# Altium footprint library PCB.PcbLib: 35 footprints (part 1 of 3)
Each footprint in its own frame and in the unit in brackets; x right, y up, seen from the top. Pads: shape width x height; smd on the part's side, far side on the other; paste and mask are expansions set on the pad; w line width, h text height; cw(c..) or ccw(c..) is an arc to the next point about the centre after c.
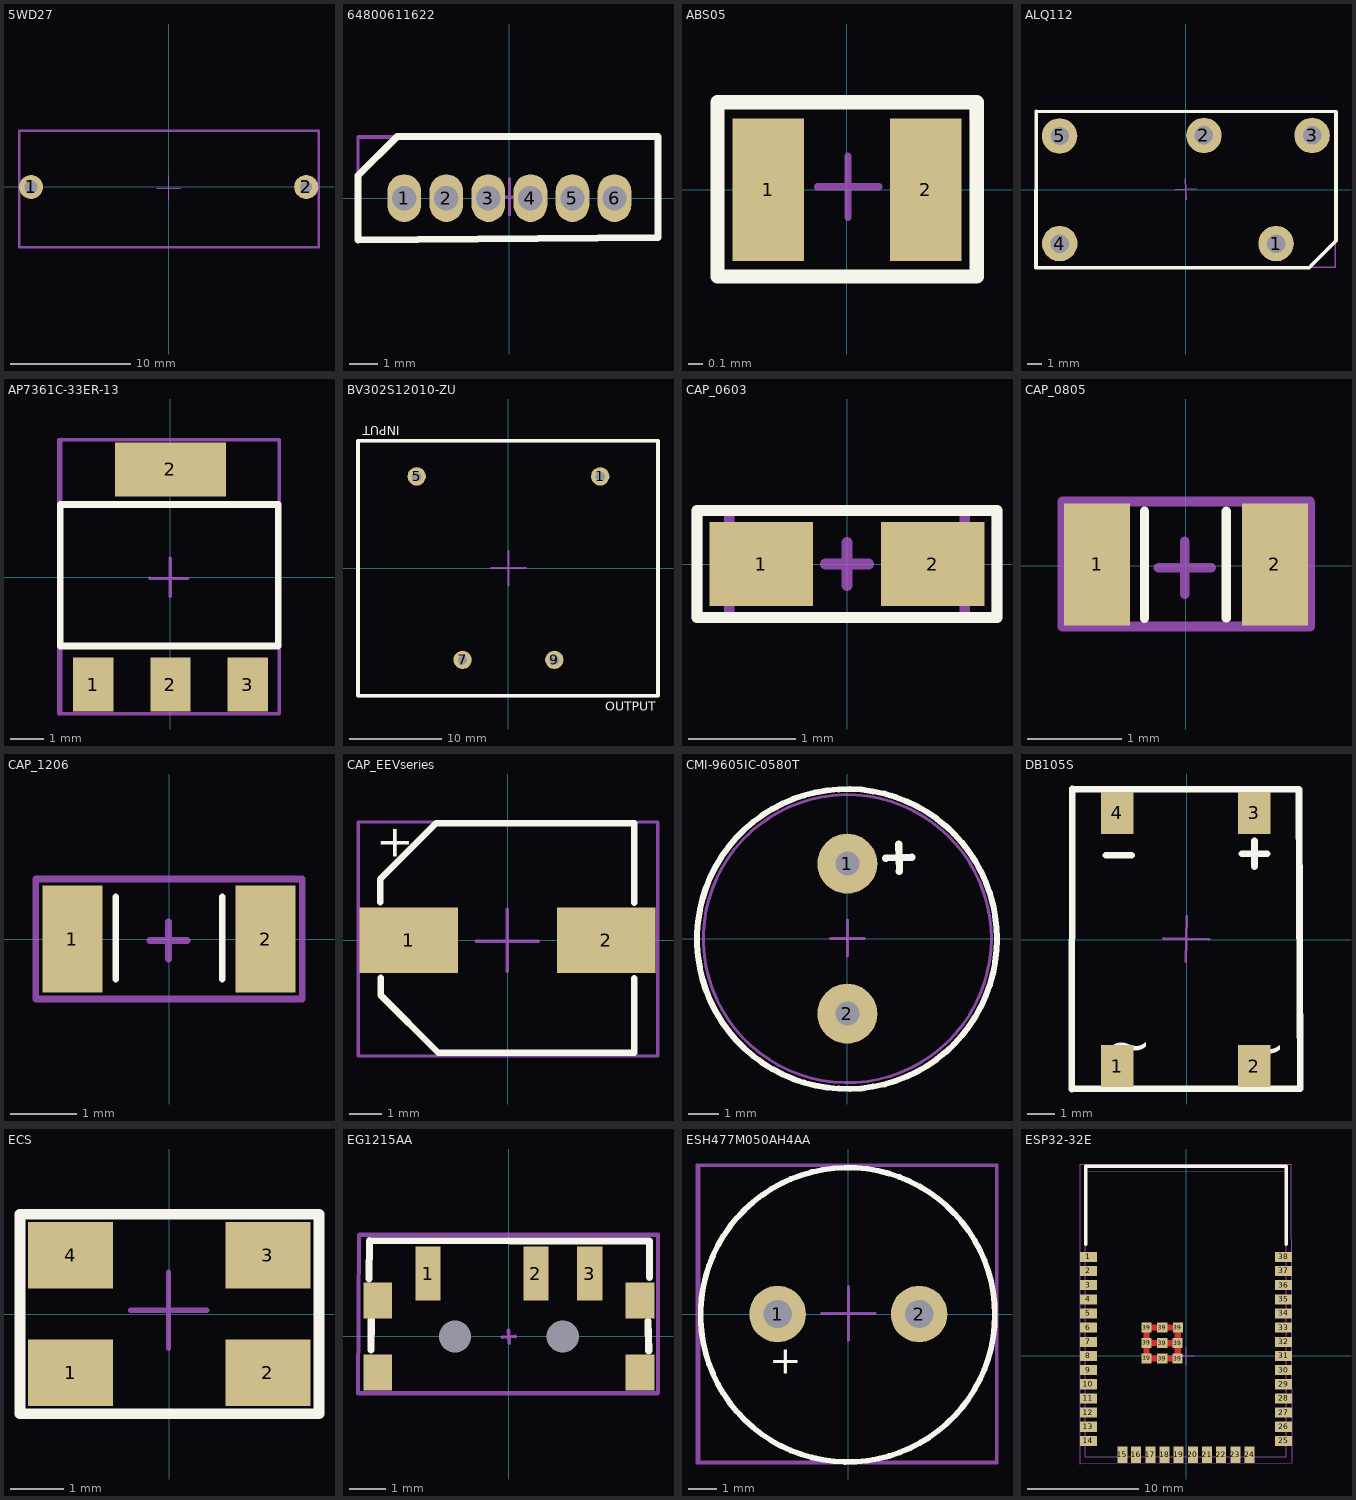
[diagram p0: the footprints below, top view; thin cyan lines are the x and y axes]

## 5WD27 [mm]
pads (2):
  round 2 hole 1.1 mask+0.05: 1(-11.425,0)
  round 2 hole 1 mask+0.05: 2(11.425,0)
Top Component Center:
  lines w0.1: -1.003,-0.086 1.009,-0.086 ; 0.003,-1.092 0.003,0.92
  lines w0.2: -12.414,-5.029 -12.414,4.671 12.487,4.671 12.487,-5.029 -12.414,-5.029
Top Designator:
  lines w0.2: -12.422,-5.007 -12.422,4.693 12.479,4.693 12.479,-5.007 -12.422,-5.007
  text ".Designator" at -1.898,-0.709 h1.52
3D body: height 5.4, standoff 4.6, extent 11.082,-0.4 11.882,0.4
3D body: height 5.4, standoff 4.6, extent 2.454,-0.399 11.454,0.401
3D body: height 5, standoff -4, extent 11.084,-0.398 11.884,0.402
3D body: height 5.4, standoff 4.6, extent -11.788,-0.418 -10.988,0.382
3D body: height 5.4, standoff 4.6, extent -11.36,-0.419 -2.36,0.381
3D body: height 5, standoff -4, extent -11.79,-0.42 -10.99,0.38
3D body: height 9.65, standoff 0, extent -7.425,-4.985 7.46,4.66

## 64800611622 [mm]
pads (6):
  oval 1.2x1.7 hole 0.87 mask+0.05: 1(-3.75,0) 2(-2.25,0) 3(-0.75,0) 4(0.75,0) 5(2.25,0) 6(3.75,0)
Top Overlay:
  lines w0.25: -5.4,-1.5 -5.4,0.8 -4,2.2 5.3,2.2 5.3,-1.4 -5.4,-1.5
Top Component Center:
  lines w0.1: -0.65,0.05 0.65,0.05 ; 0,-0.6 0,0.7 ; -5.4,-1.5 -5.4,2.2 5.3,2.2 5.3,-1.4 -5.4,-1.5
Top Designator:
  lines w0.1: -5.4,-1.55 -5.4,2.15 5.3,2.15 5.3,-1.45 -5.4,-1.55
  text ".Designator" at -2.12,-0.287 h1
3D body "64800611622 (rev1).stp": height 4.55, standoff -2.65, extent -5.25,-1.4 5.25,2.1

## ABS05 [mm]
pads (2):
  rect 0.5x1 smd mask+0.05: 1(-0.55,0) 2(0.55,0)
Top Overlay:
  lines w0.1: -0.907,-0.607 0.908,-0.607 0.908,0.612 -0.907,0.612 -0.907,-0.607
Top Component Center:
  lines w0.05: -0.206,0.021 0.223,0.021 ; 0.008,-0.194 0.008,0.235 ; -0.892,-0.612 0.908,-0.612 0.892,0.615 -0.892,0.61 -0.892,-0.612
Top Designator:
  lines w0.05: -0.9,-0.604 0.9,-0.604 0.884,0.623 -0.9,0.617 -0.9,-0.604
  text ".Designator" at -0.58,-0.205 h0.5
3D body "User Library-ABS05.step": height 0.5, standoff 0, extent -0.8,-0.5 0.8,0.5

## ALQ112 [mm]
pads (5):
  round 2.5 hole 1.3 mask+0.05: 1(6.355,-3.81) 2(1.275,3.81) 3(8.895,3.81) 4(-8.885,-3.81) 5(-8.895,3.77)
Top Overlay:
  lines w0.25: -10.554,-5.5 -10.522,5.521 10.577,5.488 10.577,-3.618 8.874,-5.321 8.695,-5.5 -10.554,-5.5
Top Component Center:
  lines w0.1: -0.734,-0.002 0.744,0.068 ; -0.03,0.772 0.04,-0.706 ; -10.54,-5.476 -10.54,5.519 10.534,5.573 10.507,-5.476 -10.54,-5.476
Top Designator:
  lines w0.1: -10.54,-5.476 10.507,-5.476 10.534,5.573 -10.54,5.519 -10.54,-5.476
  text ".Designator" at -5.421,-0.548 h1.52
3D body: height 15.6, standoff 0.4, extent -10.495,-5.48 10.505,5.52
3D body: height 4.2, standoff -3.75, extent 0.68,3.575 1.87,4.045
3D body: height 15.6, standoff 0.4, extent 8.207,-4.687 9.677,-3.297
3D body: height 0.45, standoff -3.75, extent -9.285,3.41 -8.485,4.21
3D body: height 0.45, standoff -3.75, extent -9.285,-4.21 -8.485,-3.41
3D body: height 4.2, standoff -3.75, extent 8.3,3.575 9.49,4.045
3D body: height 4.2, standoff -3.75, extent 5.76,-4.045 6.95,-3.575

## AP7361C-33ER-13 [mm]
pads (4):
  rect 1.2x1.6 smd mask+0.05: 1(-2.3,-3.2) 2(0,-3.2) 3(2.3,-3.2)
  rect 3.3x1.6 smd mask+0.05: 2(0,3.2)
Top Overlay:
  lines w0.2: -3.28,-2.05 -3.28,2.16 3.21,2.16 3.21,-2.05 -3.28,-2.05
Top Component Center:
  lines w0.1: -0.616,-0.031 0.524,-0.041 ; -0.01,-0.58 0,0.56 ; -3.33,-4.07 -3.33,4.08 3.23,4.08 3.23,-4.07 -3.33,-4.07
Top Designator:
  lines w0.1: -3.255,-4.073 3.245,-4.073 3.245,4.085 -3.255,4.095 -3.255,-4.073
  text ".Designator" at -2.12,-0.39 h0.9
3D body "CircuitWorks-SOT-223.step": height 1.65, standoff -0.03, extent -3.25,-3.48 3.25,3.48

## BV302S12010-ZU [mm]
pads (4):
  round 2 hole 1 mask+0.05: 1(10,10) 5(-10,10) 7(-5,-10) 9(5,-10)
Top Overlay:
  lines w0.4: -16.4,-13.9 16.3,-13.9 16.3,13.9 -16.4,13.9 -16.4,-13.9
  text "OUTPUT" at 10.554,-15.546 h1
  text "INPUT" at -11.854,15.446 h1
Top Component Center:
  lines w0.2: -1.9,0 1.9,0 ; 0,-1.9 0,1.9 ; -16.3,-13.9 16.2,-13.9 16.2,13.9 -16.3,13.9 -16.3,-13.9
Top Designator:
  lines w0.2: -16.3,-14 16.2,-14 16.2,13.8 -16.3,13.8 -16.3,-14
  text ".Designator" at -2.4,-0.834 h2
3D body "User Library-Hahn BV EI 302 2902.step": height 20.81, standoff -5.49, extent -16.25,-13.75 16.25,13.75

## CAP_0603 [mil]
pads (2):
  rect 38x31 smd mask+1.97: 1(-31.5,0) 2(31.5,0)
Top Overlay:
  lines w3.94: -55.12,-19.68 -55.12,19.68 55.12,19.68 55.12,-19.68 -55.12,-19.68
Top 3D BODY:
  lines w3.94: -43.31,-19.68 -43.31,19.68 43.31,19.68 43.31,-19.68 -43.31,-19.68
Top Component Center:
  lines w3.94: -7.87,0 7.87,0 ; 0,-7.87 0,7.87 ; -55.12,-19.68 -55.12,19.68 55.12,19.68 55.12,-19.68 -55.12,-19.68
Top Designator:
  lines w3.94: -55.12,-19.68 -55.12,19.68 55.12,19.68 55.12,-19.68 -55.12,-19.68
  text ".Designator" at -20.08,-6.96 h15.75
3D body "CAPC0603.STEP": height 31.5, standoff 0, extent -41.35,-20.82 41.35,19.68

## CAP_0805 [mm]
pads (2):
  rect 0.7x1.3 smd mask+0.05: 1(-0.939,0.013) 2(0.948,0.013)
Top Overlay:
  lines w0.1: -0.436,-0.56 -0.436,0.576 ; 0.431,-0.556 0.431,0.58
Top Component Center:
  lines w0.1: -0.289,-0.022 0.272,-0.022 ; -0.008,-0.303 -0.008,0.258 ; -1.31,-0.651 -1.31,0.681 1.324,0.681 1.324,-0.651 -1.31,-0.651
Top Designator:
  lines w0.1: -1.312,-0.646 1.322,-0.646 1.322,0.686 -1.312,0.686 -1.312,-0.646
  text ".Designator" at -1.073,-0.185 h0.5
3D body "CAPC0805.STEP": height 0.9, standoff 0, extent -1.281,-0.666 1.321,0.69

## CAP_1206 [mm]
pads (2):
  rect 0.9x1.6 smd mask+0.05: 1(-1.45,0) 2(1.45,0)
Top Overlay:
  lines w0.1: -0.8,-0.6 -0.8,0.636 ; 0.8,-0.6 0.8,0.636
Top Component Center:
  lines w0.1: -0.289,-0.022 0.272,-0.022 ; -0.008,-0.303 -0.008,0.258 ; -2,-0.9 2,-0.9 2,0.9 -2,0.9 -2,-0.9
Top Designator:
  lines w0.1: -2,-0.9 -2,0.9 2,0.9 2,-0.9 -2,-0.9
  text ".Designator" at -1.073,-0.185 h0.5
3D body "CAPC1206.STEP": height 1.3, standoff -0.01, extent -1.975,-0.976 1.975,0.976

## CAP_EEVseries [mm]
pads (2):
  rect 3x2 smd mask+0.05: 1(-3,0) 2(3,0)
Top Overlay:
  lines w0.2: -3.87,1.158 -3.87,1.865 -2.173,3.562 3.852,3.562 3.852,1.142 ; -3.863,-1.142 -3.863,-1.663 -2.106,-3.42 3.859,-3.42 3.859,-1.158
  text "+" at -3.998,2.546 h1
Top Component Center:
  lines w0.1: -0.947,-0.028 0.945,-0.028 ; -0.007,-0.944 -0.007,0.948 ; -4.55,-3.52 4.567,-3.52 4.567,3.605 -4.55,3.605 -4.55,-3.52
Top Designator:
  lines w0.1: -4.538,-3.522 4.579,-3.522 4.579,3.603 -4.538,3.603 -4.538,-3.522
  text ".Designator" at -3.243,-0.634 h1.52
3D body "EEV686M035A9HAA.step": height 8.01, standoff 0, extent -3.811,-3.335 3.789,3.465

## CMI-9605IC-0580T [mm]
pads (2):
  round 2 hole 0.8 mask+0.05: 1(0,2.5) 2(0,-2.5)
Top Overlay:
  circle w0.2: c-0.01,-0.01 r5
  lines w0.25: 1.28,2.69 2.156,2.709 ; 1.72,3.15 1.74,2.25
Top Component Center:
  circle w0.1: c0,0 r4.8
  lines w0.1: -0.56,0.001 0.57,0.01 ; 0.001,0.62 0.01,-0.57
Top Designator:
  circle w0.1: c0,0 r4.8
  text ".Designator" at -0.586,-0.858 h1.52
3D body: height 5.2, standoff 5.15, extent -2,2 2,6
3D body: height 5.2, standoff 5.15, extent -4.3,-4.3 4.3,4.3
3D body: height 1.45, standoff -3.85, extent -0.3,-2.8 0.3,-2.2
3D body: height 0.3, standoff -5, extent -0.3,2.2 0.3,2.8
3D body: height 5.1, standoff 0.1, extent -4.8,-4.8 4.8,4.8

## DB105S [mm]
pads (4):
  rect 1.2x1.55 smd mask+0.05: 1(-2.59,-4.7) 2(2.5,-4.7) 3(2.5,4.7) 4(-2.59,4.7)
Top Overlay:
  lines w0.25: -3.01,3.13 -2.06,3.13 ; 2.035,3.19 2.985,3.19 ; 2.51,2.715 2.51,3.665 ; -4.28,-5.55 -4.26,5.59 4.16,5.57 4.21,-5.53 -4.28,-5.55
  text "~" at 1.934,-4.736 h1.52
  text "~" at -3.036,-4.636 h1.52
Top Component Center:
  lines w0.1: -0.87,0.04 0.82,0.01 ; -0.04,-0.82 -0.01,0.87 ; -4.26,-5.55 -4.26,5.57 4.16,5.57 4.16,-5.55 -4.26,-5.55
Top Designator:
  lines w0.1: -4.255,-5.545 -4.255,5.575 4.165,5.575 4.165,-5.545 -4.255,-5.545
  text ".Designator" at -1.86,-0.967 h1
3D body "User Library-DB107S  DB-S.step": height 2.66, standoff 0, extent -4.21,-5.19 4.11,5.21

## ECS [mm]
pads (4):
  rect 1.6x1.25 smd mask+0.05: 1(-1.85,-1.1) 2(1.85,-1.1) 3(1.85,1.1) 4(-1.85,1.1)
Top Overlay:
  lines w0.2: -2.798,-1.872 2.807,-1.872 2.807,1.87 -2.798,1.87 -2.798,-1.872
Top Component Center:
  lines w0.1: -0.727,0.071 0.701,0.071 ; -0.013,-0.643 -0.013,0.785 ; -2.798,-1.891 2.807,-1.891 2.807,1.888 -2.798,1.888 -2.798,-1.891
Top Designator:
  lines w0.1: -2.816,-1.899 2.789,-1.899 2.789,1.88 -2.816,1.88 -2.816,-1.899
  text ".Designator" at -2.137,-0.427 h1
3D body "ECS-160-20-30B-TR.STEP": height 0.85, standoff 0, extent -2.5,-1.6 2.5,1.6

## EG1215AA [mm]
pads (9):
  rect 0.7x1.5 smd mask+0.05: 1(-2.25,1.75) 2(0.75,1.75) 3(2.25,1.75)
  rect 0.8x1 smd mask+0.05: ""(-3.65,-1) ""(-3.65,1) ""(3.65,-1) ""(3.65,1)
  round 0 hole 0.9 mask+0.05: ""(-1.5,0) ""(1.5,0)
Top Overlay:
  lines w0.2: -3.89,1.6 -3.88,2.67 3.91,2.65 3.91,1.64 ; -3.84,-0.38 -3.83,0.45 ; 3.87,0.43 3.89,-0.4
Top Component Center:
  lines w0.1: -0.18,-0.02 0.18,0 ; -0.01,0.17 0.01,-0.19 ; 4.14,2.81 4.14,-1.59 -4.2,-1.59 -4.18,2.82 4.14,2.82
Top Designator:
  lines w0.1: 4.15,2.83 4.15,-1.57 -4.19,-1.57 -4.17,2.84 4.15,2.84
  text ".Designator" at -2.05,-0.367 h1
3D body "EG1215AA--3DModel-STEP-1.STEP": height 1.4, standoff -0.3, extent -3.83,-2.68 3.87,2.22

## ESH477M050AH4AA [mm]
pads (2):
  round 2 hole 1 mask+0.05: 1(-2.5,0) 2(2.5,0)
Top Overlay:
  circle w0.2: c-0.025,-0.025 r5.2
  text "+" at -2.796,-2.113 h1
Top Component Center:
  lines w0.1: -0.95,0.025 0.95,0.025 ; 0,-0.925 0,0.975 ; -5.275,-5.225 -5.275,5.25 5.225,5.25 5.225,-5.225 -5.275,-5.225
Top Designator:
  lines w0.1: -5.35,-5.27 5.25,-5.27 5.25,5.275 -5.35,5.275 -5.35,-5.27
  text ".Designator" at -3.057,-0.451 h1.4
3D body "ESH477M050AH4AA.step": height 22.2, standoff -19.8, extent -5.25,-5.25 5.25,5.25

## ESP32-32E [mm]
pads (47):
  rect 1.5x0.9 smd mask+0.05: 1(-8.743,8.88) 2(-8.743,7.61) 3(-8.743,6.34) 4(-8.743,5.07) 5(-8.743,3.8) 6(-8.743,2.53) 7(-8.743,1.26) 8(-8.743,-0.01) 9(-8.743,-1.28) 10(-8.743,-2.55) 11(-8.743,-3.82) 12(-8.743,-5.09) 13(-8.743,-6.36) 14(-8.743,-7.63) 25(8.743,-7.63) 26(8.743,-6.36) 27(8.743,-5.09) 28(8.743,-3.82) 29(8.743,-2.55) 30(8.743,-1.28) 31(8.743,-0.01) 32(8.743,1.26) 33(8.743,2.53) 34(8.743,3.8) 35(8.743,5.07) 36(8.743,6.34) 37(8.743,7.61) 38(8.743,8.88)
  rect 0.9x1.5 smd mask+0.05: 15(-5.713,-8.88) 16(-4.463,-8.88) 17(-3.193,-8.88) 18(-1.923,-8.88) 19(-0.653,-8.88) 20(0.617,-8.88) 21(1.887,-8.88) 22(3.157,-8.88) 23(4.427,-8.88) 24(5.697,-8.88)
  rect 0.9x0.9 smd mask+0.05: 39(-3.53,-0.23) 39(-3.53,1.15) 39(-3.53,2.53) 39(-2.13,-0.25) 39(-2.13,1.13) 39(-2.13,2.53) 39(-0.75,-0.25) 39(-0.75,1.13) 39(-0.73,2.53)
Top Layer:
  lines w0.559: -3.53,1.15 -2.15,1.15 -2.13,1.13 -0.75,1.13 ; -3.53,-0.23 -3.53,2.53 -2.13,2.53 -0.73,2.53 -0.75,2.51 -0.75,-0.25 -3.51,-0.25 -3.53,-0.23
Top Overlay:
  lines w0.3: -9,10 -9,17 9,17 9,10
Top 3D BODY:
  lines w0.1: -9.08,16.51 8.99,16.55 8.982,-9.032 -9.07,-9.04 -9.08,16.51
Top Component Center:
  lines w0.1: -9.5,-9.7 -9.5,17.2 9.4,17.2 9.5,-9.6 -9.5,-9.699 ; -0.7,0 0.8,0 ; 0,-0.9 0,0.8
Top Designator:
  lines w0.1: -9.5,-9.7 -9.5,17.2 9.4,17.2 9.5,-9.6 -9.5,-9.699
  text ".Designator" at -1.246,-0.738 h1.52
3D body "esp-wroom-32.step": height 3, standoff -0.04, extent -9.065,-9.06 9.005,16.48